# Altium integrated library Analog Devices Data Converters Digital-to-Analog Converters.IntLib: 2231 symbols (part 5 of 181)
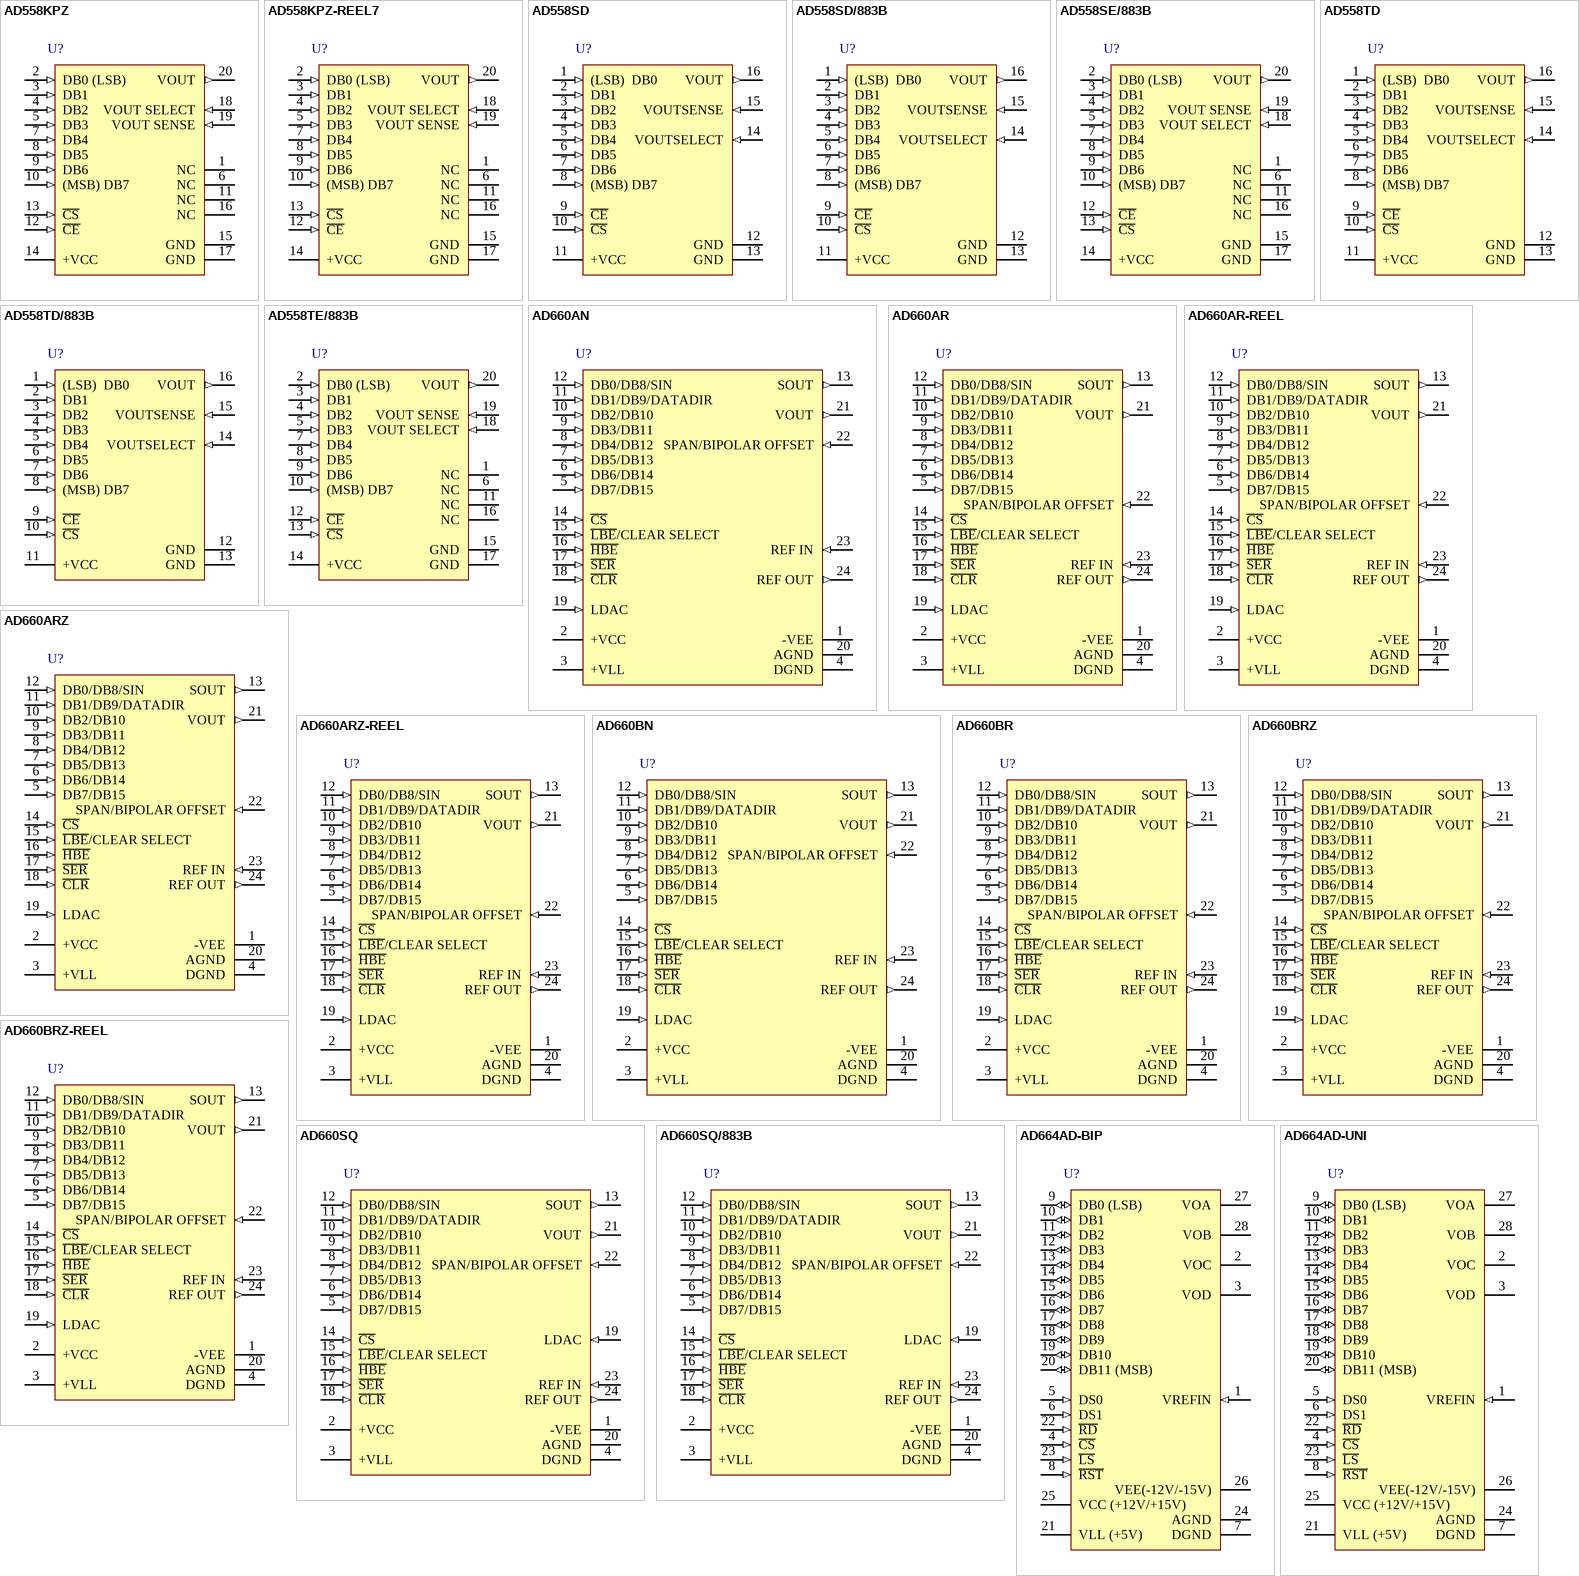
[diagram p118: symbols AD558KPZ to AD664AD-UNI]

## AD558TD
designator U?
Single 8-Bit Low Cost Complete uP-Compatible DACPORT, -55 to +125 degC, D-16, Tube; Generic Part Number: AD558; Manufacturer: Analog Devices; PartNumber: AD558TD; # DAC Outputs: 1; Max V+: 16.5V; Op Pwr Diss: 375mW; Resolution (Bits): 8; Settling Time: 800ns; Single Supply: Yes; DatasheetVersion: Rev.A; PackageVersion: Oct-2004; PackageReference: D-16; PackageDescription: 16-Lead Side-Brazed Ceramic Dual In-Line Package [SBDIP]; Supplier 1: Digi-Key; Supplier Part Number 1: AD558TD-ND; Supplier 2: Newark; Supplier Part Number 2: 05F6983; Supplier 3: Mouser; Supplier Part Number 3: 584-AD558TD; Packing: Tube; RoHS: N; Mounting Technology: Through Hole; ComponentLink1Description: Manufacturer URL; ComponentLink1URL: http://www.analog.com/en/index.html; ComponentLink2Description: Datasheet; ComponentLink2URL: http://www.analog.com/static/imported-files/data_sheets/AD558.pdf; ComponentLink3Description: Package Specification; ComponentLink3URL: http://www.analog.com/static/imported-files/packages/411773807540737148809448D_16.pdf; ComponentLink4Description: Product URL; ComponentLink4URL: http://www.analog.com/en/digital-to-analog-converters/da-converters/ad558/products/product.html
footprint D-16 (DIP, 16-Leads, Row Spacing 7.62mm, Pitch 2.54mm, Body 21.3x6.7mm)
pins: 1 (LSB)  DB0 (in), 2 DB1 (in), 3 DB2 (in), 4 DB3 (in), 5 DB4 (in), 6 DB5 (in), 7 DB6 (in), 8 (MSB) DB7 (in), 9 ~{CE} (in), 10 ~{CS} (in), 11 +VCC (power), 12 GND (power), 13 GND (power), 14 VOUTSELECT (in), 15 VOUTSENSE (in), 16 VOUT (out)

## AD558TD/883B
designator U?
Single 8-Bit Low Cost Complete uP-Compatible DACPORT, -55 to +125 degC, D-16, Tube; Generic Part Number: AD558; Manufacturer: Analog Devices; PartNumber: AD558TD/883B; # DAC Outputs: 1; Max V+: 16.5V; Op Pwr Diss: 375mW; Resolution (Bits): 8; Settling Time: 800ns; Single Supply: Yes; DatasheetVersion: Rev.A; PackageVersion: Oct-2004; PackageReference: D-16; PackageDescription: 16-Lead Side-Brazed Ceramic Dual In-Line Package [SBDIP]; Supplier 1: Mouser; Supplier Part Number 1: 584-AD558TD883B; Packing: Tube; RoHS: N; Mounting Technology: Through Hole; ComponentLink1Description: Manufacturer URL; ComponentLink1URL: http://www.analog.com/en/index.html; ComponentLink2Description: Datasheet; ComponentLink2URL: http://www.analog.com/static/imported-files/data_sheets/AD558.pdf; ComponentLink3Description: Package Specification; ComponentLink3URL: http://www.analog.com/static/imported-files/packages/411773807540737148809448D_16.pdf; ComponentLink4Description: Product URL; ComponentLink4URL: http://www.analog.com/en/digital-to-analog-converters/da-converters/ad558/products/product.html
footprint D-16 (DIP, 16-Leads, Row Spacing 7.62mm, Pitch 2.54mm, Body 21.3x6.7mm)
pins: 1 (LSB)  DB0 (in), 2 DB1 (in), 3 DB2 (in), 4 DB3 (in), 5 DB4 (in), 6 DB5 (in), 7 DB6 (in), 8 (MSB) DB7 (in), 9 ~{CE} (in), 10 ~{CS} (in), 11 +VCC (power), 12 GND (power), 13 GND (power), 14 VOUTSELECT (in), 15 VOUTSENSE (in), 16 VOUT (out)

## AD558TE/883B
designator U?
Single 8-Bit Low Cost Complete uP-Compatible DACPORT, -55 to +125 degC, E-20-1, Tube; Generic Part Number: AD558; Manufacturer: Analog Devices; PartNumber: AD558TE/883B; # DAC Outputs: 1; Max V+: 16.5V; Op Pwr Diss: 375mW; Resolution (Bits): 8; Settling Time: 800ns; Single Supply: Yes; DatasheetVersion: Rev.A; PackageVersion: 022106-A; PackageReference: E-20-1; PackageDescription: 20-Terminal Ceramic Leadless Chip Carrier [LCC]; Supplier 1: Mouser; Supplier Part Number 1: 584-AD558TE883B; Packing: Tube; RoHS: N; Mounting Technology: Surface Mount; ComponentLink1Description: Manufacturer URL; ComponentLink1URL: http://www.analog.com/en/index.html; ComponentLink2Description: Datasheet; ComponentLink2URL: http://www.analog.com/static/imported-files/data_sheets/AD558.pdf; ComponentLink3Description: Package Specification; ComponentLink3URL: http://www.analog.com/static/imported-files/packages/PKG_PDF/LCC(E)/E_20_1.pdf; ComponentLink4Description: Product URL; ComponentLink4URL: http://www.analog.com/en/digital-to-analog-converters/da-converters/ad558/products/product.html
footprint E-20-1_N (Leadless Chip Carrier, 20-Leads, Body 8.9x8.9mm, Pitch 1.27mm, IPC Medium Density)
footprint E-20-1_L (Leadless Chip Carrier, 20-Leads, Body 8.9x8.9mm, Pitch 1.27mm, IPC High Density)
footprint E-20-1_M (Leadless Chip Carrier, 20-Leads, Body 8.9x8.9mm, Pitch 1.27mm, IPC Low Density)
pins: 1 NC, 2 DB0 (LSB) (in), 3 DB1 (in), 4 DB2 (in), 5 DB3 (in), 6 NC, 7 DB4 (in), 8 DB5 (in), 9 DB6 (in), 10 (MSB) DB7 (in), 11 NC, 12 ~{CE} (in), 13 ~{CS} (in), 14 +VCC (power), 15 GND (power), 16 NC, 17 GND (power), 18 VOUT SELECT (in), 19 VOUT SENSE (in), 20 VOUT (out)

## AD660AN
designator U?
Single 16-Bit Monolithic DACPORT, -40 to +85 degC, N-24-1, Tube; Generic Part Number: AD660; Manufacturer: Analog Devices; PartNumber: AD660AN; # DAC Outputs: 1; Max V+: 16.5V; Op Pwr Diss: 625mW; Resolution (Bits): 16; Settling Time: 6µs; Single Supply: No; DatasheetVersion: Rev.B; PackageVersion: 071006-A; PackageReference: N-24-1; PackageDescription: 24-Lead Plastic Dual In-Line Package [PDIP] Narrow Body; Supplier 1: Digi-Key; Supplier Part Number 1: AD660AN-ND; Supplier 2: Newark; Supplier Part Number 2: 66F5806; Supplier 3: Mouser; Supplier Part Number 3: 584-AD660AN; Packing: Tube; RoHS: N; Mounting Technology: Through Hole; Code_JEDEC: MS-001; ComponentLink1Description: Manufacturer URL; ComponentLink1URL: http://www.analog.com/en/index.html; ComponentLink2Description: Datasheet; ComponentLink2URL: http://www.analog.com/static/imported-files/data_sheets/AD660.pdf; ComponentLink3Description: Package Specification; ComponentLink3URL: http://www.analog.com/static/imported-files/packages/50726455539629N_24_1.pdf; ComponentLink4Description: Product URL; ComponentLink4URL: http://www.analog.com/en/digital-to-analog-converters/da-converters/ad660/products/product.html
footprint N-24-1 (DIP, 24-Leads, Row Spacing 7.62mm, Pitch 2.54mm, Body 31.9x6.6mm)
pins: 1 -VEE (power) "Negative Analog Supply Pin", 2 +VCC (power) "Positive Analog Supply Pin", 3 +VLL (power) "Digital Supply Pin", 4 DGND (power) "Digital Ground Reference Pin", 5 DB7/DB15 (in) "DB7 and DB15 Byte Load Data Input Pin", 6 DB6/DB14 (in) "DB6 and DB14 Byte Load Data Input Pin", 7 DB5/DB13 (in) "DB5 and DB13 Byte Load Data Input Pin", 8 DB4/DB12 (in) "DB4 and DB12 Byte Load Data Input Pin", 9 DB3/DB11 (in) "DB3 and DB11 Byte Load Data Input Pin", 10 DB2/DB10 (in) "DB2 and DB10 Byte Load Data Input Pin", 11 DB1/DB9/DATADIR (in) "DB1 and DB9 Byte Load Data Input Pin/MSB or L\S\B\ First Data Direction Serial Input Select Pin", 12 DB0/DB8/SIN (in) "DB0 and DB8 Byte Load Data Input Pin/Serial Data Input Pin", 13 SOUT (out) "Serial Data Output Pin", 14 ~{CS} (in) "Chip Select Pin", 15 ~{LBE}/CLEAR SELECT (in) "Low Byte Enable Pin/U\n\i\p\o\l\ar or Bipolar Clear Select Pin", 16 ~{HBE} (in) "High Byte Enable Pin", 17 ~{SER} (in) "Serial Input Enable Pin", 18 ~{CLR} (in) "Output Clear Pin", 19 LDAC (in) "Load DAC Pin", 20 AGND (power) "Analog Ground Reference Pin", 21 VOUT (out) "Voltage Output Pin", 22 SPAN/BIPOLAR OFFSET (in) "Output Span Configuration Pin", 23 REF IN (in) "External Reference Voltage Input Pin", 24 REF OUT (out) "Internal Reference Voltage Output Pin"

## AD660AR
designator U?
Single 16-Bit Monolithic DACPORT, -40 to +85 degC, RW-24, Tube; Generic Part Number: AD660; Manufacturer: Analog Devices; PartNumber: AD660AR; # DAC Outputs: 1; Max V+: 16.5V; Op Pwr Diss: 625mW; Resolution (Bits): 16; Settling Time: 6µs; Single Supply: No; DatasheetVersion: Rev.B; PackageVersion: 060706-A; PackageReference: RW-24; PackageDescription: 24-Lead Standard Small Outline Package [SOIC_W]; Supplier 1: Digi-Key; Supplier Part Number 1: AD660AR-ND; Supplier 2: Mouser; Supplier Part Number 2: 584-AD660AR; Packing: Tube; RoHS: N; Mounting Technology: Surface Mount; Code_JEDEC: MS-013-AD; ComponentLink1Description: Manufacturer URL; ComponentLink1URL: http://www.analog.com/en/index.html; ComponentLink2Description: Datasheet; ComponentLink2URL: http://www.analog.com/static/imported-files/data_sheets/AD660.pdf; ComponentLink3Description: Package Specification; ComponentLink3URL: http://www.analog.com/static/imported-files/packages/33665150946139RW_24.pdf; ComponentLink4Description: Product URL; ComponentLink4URL: http://www.analog.com/en/digital-to-analog-converters/da-converters/ad660/products/product.html
footprint RW-24_N (SOIC, 24-Leads, Body 15.4x7.5mm, Pitch 1.27mm, IPC Medium Density)
footprint RW-24_L (SOIC, 24-Leads, Body 15.4x7.5mm, Pitch 1.27mm, IPC High Density)
footprint RW-24_M (SOIC, 24-Leads, Body 15.4x7.5mm, Pitch 1.27mm, IPC Low Density)
pins: 1 -VEE (power) "Negative Analog Supply Pin", 2 +VCC (power) "Positive Analog Supply Pin", 3 +VLL (power) "Digital Supply Pin", 4 DGND (power) "Digital Ground Reference Pin", 5 DB7/DB15 (in) "DB7 and DB15 Byte Load Data Input Pin", 6 DB6/DB14 (in) "DB6 and DB14 Byte Load Data Input Pin", 7 DB5/DB13 (in) "DB5 and DB13 Byte Load Data Input Pin", 8 DB4/DB12 (in) "DB4 and DB12 Byte Load Data Input Pin", 9 DB3/DB11 (in) "DB3 and DB11 Byte Load Data Input Pin", 10 DB2/DB10 (in) "DB2 and DB10 Byte Load Data Input Pin", 11 DB1/DB9/DATADIR (in) "DB1 and DB9 Byte Load Data Input Pin/MSB or L\S\B\ First Data Direction Serial Input Select Pin", 12 DB0/DB8/SIN (in) "DB0 and DB8 Byte Load Data Input Pin/Serial Data Input Pin", 13 SOUT (out) "Serial Data Output Pin", 14 ~{CS} (in) "Chip Select Pin", 15 ~{LBE}/CLEAR SELECT (in) "Low Byte Enable Pin/U\n\i\p\o\l\a\r\ or Bipolar Clear Select Pin", 16 ~{HBE} (in) "High Byte Enable Pin", 17 ~{SER} (in) "Serial Input Enable Pin", 18 ~{CLR} (in) "Output Clear Pin", 19 LDAC (in) "Load DAC Pin", 20 AGND (power) "Analog Ground Reference Pin", 21 VOUT (out) "Voltage Output Pin", 22 SPAN/BIPOLAR OFFSET (in) "Output Span Configuration Pin", 23 REF IN (in) "External Reference Voltage Input Pin", 24 REF OUT (out) "Internal Reference Voltage Output Pin"

## AD660AR-REEL
designator U?
Single 16-Bit Monolithic DACPORT, -40 to +85 degC, RW-24, Reel; Generic Part Number: AD660; Manufacturer: Analog Devices; PartNumber: AD660AR-REEL; # DAC Outputs: 1; Max V+: 16.5V; Op Pwr Diss: 625mW; Resolution (Bits): 16; Settling Time: 6µs; Single Supply: No; DatasheetVersion: Rev.B; PackageVersion: 060706-A; PackageReference: RW-24; PackageDescription: 24-Lead Standard Small Outline Package [SOIC_W]; Supplier 1: Mouser; Supplier Part Number 1: N/A; Packing: Reel; RoHS: N; Mounting Technology: Surface Mount; Code_JEDEC: MS-013-AD; ComponentLink1Description: Manufacturer URL; ComponentLink1URL: http://www.analog.com/en/index.html; ComponentLink2Description: Datasheet; ComponentLink2URL: http://www.analog.com/static/imported-files/data_sheets/AD660.pdf; ComponentLink3Description: Package Specification; ComponentLink3URL: http://www.analog.com/static/imported-files/packages/33665150946139RW_24.pdf; ComponentLink4Description: Product URL; ComponentLink4URL: http://www.analog.com/en/digital-to-analog-converters/da-converters/ad660/products/product.html
footprint RW-24_N (SOIC, 24-Leads, Body 15.4x7.5mm, Pitch 1.27mm, IPC Medium Density)
footprint RW-24_L (SOIC, 24-Leads, Body 15.4x7.5mm, Pitch 1.27mm, IPC High Density)
footprint RW-24_M (SOIC, 24-Leads, Body 15.4x7.5mm, Pitch 1.27mm, IPC Low Density)
pins: 1 -VEE (power) "Negative Analog Supply Pin", 2 +VCC (power) "Positive Analog Supply Pin", 3 +VLL (power) "Digital Supply Pin", 4 DGND (power) "Digital Ground Reference Pin", 5 DB7/DB15 (in) "DB7 and DB15 Byte Load Data Input Pin", 6 DB6/DB14 (in) "DB6 and DB14 Byte Load Data Input Pin", 7 DB5/DB13 (in) "DB5 and DB13 Byte Load Data Input Pin", 8 DB4/DB12 (in) "DB4 and DB12 Byte Load Data Input Pin", 9 DB3/DB11 (in) "DB3 and DB11 Byte Load Data Input Pin", 10 DB2/DB10 (in) "DB2 and DB10 Byte Load Data Input Pin", 11 DB1/DB9/DATADIR (in) "DB1 and DB9 Byte Load Data Input Pin/MSB or L\S\B\ First Data Direction Serial Input Select Pin", 12 DB0/DB8/SIN (in) "DB0 and DB8 Byte Load Data Input Pin/Serial Data Input Pin", 13 SOUT (out) "Serial Data Output Pin", 14 ~{CS} (in) "Chip Select Pin", 15 ~{LBE}/CLEAR SELECT (in) "Low Byte Enable Pin/U\n\i\p\o\l\a\r\ or Bipolar Clear Select Pin", 16 ~{HBE} (in) "High Byte Enable Pin", 17 ~{SER} (in) "Serial Input Enable Pin", 18 ~{CLR} (in) "Output Clear Pin", 19 LDAC (in) "Load DAC Pin", 20 AGND (power) "Analog Ground Reference Pin", 21 VOUT (out) "Voltage Output Pin", 22 SPAN/BIPOLAR OFFSET (in) "Output Span Configuration Pin", 23 REF IN (in) "External Reference Voltage Input Pin", 24 REF OUT (out) "Internal Reference Voltage Output Pin"

## AD660ARZ
designator U?
Single 16-Bit Monolithic DACPORT, -40 to +85 degC, RW-24, Pb-Free, Tube; Generic Part Number: AD660; Manufacturer: Analog Devices; PartNumber: AD660ARZ; # DAC Outputs: 1; Max V+: 16.5V; Op Pwr Diss: 625mW; Resolution (Bits): 16; Settling Time: 6µs; Single Supply: No; DatasheetVersion: Rev.B; PackageVersion: 060706-A; PackageReference: RW-24; PackageDescription: 24-Lead Standard Small Outline Package [SOIC_W]; Supplier 1: Digi-Key; Supplier Part Number 1: AD660ARZ-ND; Supplier 2: Newark; Supplier Part Number 2: 12M8704; Supplier 3: Mouser; Supplier Part Number 3: 584-AD660ARZ; Packing: Tube; RoHS: Y; Mounting Technology: Surface Mount; Code_JEDEC: MS-013-AD; ComponentLink1Description: Manufacturer URL; ComponentLink1URL: http://www.analog.com/en/index.html; ComponentLink2Description: Datasheet; ComponentLink2URL: http://www.analog.com/static/imported-files/data_sheets/AD660.pdf; ComponentLink3Description: Package Specification; ComponentLink3URL: http://www.analog.com/static/imported-files/packages/33665150946139RW_24.pdf; ComponentLink4Description: Product URL; ComponentLink4URL: http://www.analog.com/en/digital-to-analog-converters/da-converters/ad660/products/product.html
footprint RW-24_N (SOIC, 24-Leads, Body 15.4x7.5mm, Pitch 1.27mm, IPC Medium Density)
footprint RW-24_L (SOIC, 24-Leads, Body 15.4x7.5mm, Pitch 1.27mm, IPC High Density)
footprint RW-24_M (SOIC, 24-Leads, Body 15.4x7.5mm, Pitch 1.27mm, IPC Low Density)
pins: 1 -VEE (power) "Negative Analog Supply Pin", 2 +VCC (power) "Positive Analog Supply Pin", 3 +VLL (power) "Digital Supply Pin", 4 DGND (power) "Digital Ground Reference Pin", 5 DB7/DB15 (in) "DB7 and DB15 Byte Load Data Input Pin", 6 DB6/DB14 (in) "DB6 and DB14 Byte Load Data Input Pin", 7 DB5/DB13 (in) "DB5 and DB13 Byte Load Data Input Pin", 8 DB4/DB12 (in) "DB4 and DB12 Byte Load Data Input Pin", 9 DB3/DB11 (in) "DB3 and DB11 Byte Load Data Input Pin", 10 DB2/DB10 (in) "DB2 and DB10 Byte Load Data Input Pin", 11 DB1/DB9/DATADIR (in) "DB1 and DB9 Byte Load Data Input Pin/MSB or L\S\B\ First Data Direction Serial Input Select Pin", 12 DB0/DB8/SIN (in) "DB0 and DB8 Byte Load Data Input Pin/Serial Data Input Pin", 13 SOUT (out) "Serial Data Output Pin", 14 ~{CS} (in) "Chip Select Pin", 15 ~{LBE}/CLEAR SELECT (in) "Low Byte Enable Pin/U\n\i\p\o\l\a\r\ or Bipolar Clear Select Pin", 16 ~{HBE} (in) "High Byte Enable Pin", 17 ~{SER} (in) "Serial Input Enable Pin", 18 ~{CLR} (in) "Output Clear Pin", 19 LDAC (in) "Load DAC Pin", 20 AGND (power) "Analog Ground Reference Pin", 21 VOUT (out) "Voltage Output Pin", 22 SPAN/BIPOLAR OFFSET (in) "Output Span Configuration Pin", 23 REF IN (in) "External Reference Voltage Input Pin", 24 REF OUT (out) "Internal Reference Voltage Output Pin"

## AD660ARZ-REEL
designator U?
Single 16-Bit Monolithic DACPORT, -40 to +85 degC, RW-24, Pb-Free, Reel; Generic Part Number: AD660; Manufacturer: Analog Devices; PartNumber: AD660ARZ-REEL; # DAC Outputs: 1; Max V+: 16.5V; Op Pwr Diss: 625mW; Resolution (Bits): 16; Settling Time: 6µs; Single Supply: No; DatasheetVersion: Rev.B; PackageVersion: 060706-A; PackageReference: RW-24; PackageDescription: 24-Lead Standard Small Outline Package [SOIC_W]; Supplier 1: Digi-Key; Supplier Part Number 1: AD660ARZ-REEL-ND; Supplier 2: Mouser; Supplier Part Number 2: 584-AD660ARZ-R; Packing: Reel; RoHS: Y; Mounting Technology: Surface Mount; Code_JEDEC: MS-013-AD; ComponentLink1Description: Manufacturer URL; ComponentLink1URL: http://www.analog.com/en/index.html; ComponentLink2Description: Datasheet; ComponentLink2URL: http://www.analog.com/static/imported-files/data_sheets/AD660.pdf; ComponentLink3Description: Package Specification; ComponentLink3URL: http://www.analog.com/static/imported-files/packages/33665150946139RW_24.pdf; ComponentLink4Description: Product URL; ComponentLink4URL: http://www.analog.com/en/digital-to-analog-converters/da-converters/ad660/products/product.html
footprint RW-24_N (SOIC, 24-Leads, Body 15.4x7.5mm, Pitch 1.27mm, IPC Medium Density)
footprint RW-24_L (SOIC, 24-Leads, Body 15.4x7.5mm, Pitch 1.27mm, IPC High Density)
footprint RW-24_M (SOIC, 24-Leads, Body 15.4x7.5mm, Pitch 1.27mm, IPC Low Density)
pins: 1 -VEE (power) "Negative Analog Supply Pin", 2 +VCC (power) "Positive Analog Supply Pin", 3 +VLL (power) "Digital Supply Pin", 4 DGND (power) "Digital Ground Reference Pin", 5 DB7/DB15 (in) "DB7 and DB15 Byte Load Data Input Pin", 6 DB6/DB14 (in) "DB6 and DB14 Byte Load Data Input Pin", 7 DB5/DB13 (in) "DB5 and DB13 Byte Load Data Input Pin", 8 DB4/DB12 (in) "DB4 and DB12 Byte Load Data Input Pin", 9 DB3/DB11 (in) "DB3 and DB11 Byte Load Data Input Pin", 10 DB2/DB10 (in) "DB2 and DB10 Byte Load Data Input Pin", 11 DB1/DB9/DATADIR (in) "DB1 and DB9 Byte Load Data Input Pin/MSB or L\S\B\ First Data Direction Serial Input Select Pin", 12 DB0/DB8/SIN (in) "DB0 and DB8 Byte Load Data Input Pin/Serial Data Input Pin", 13 SOUT (out) "Serial Data Output Pin", 14 ~{CS} (in) "Chip Select Pin", 15 ~{LBE}/CLEAR SELECT (in) "Low Byte Enable Pin/U\n\i\p\o\l\a\r\ or Bipolar Clear Select Pin", 16 ~{HBE} (in) "High Byte Enable Pin", 17 ~{SER} (in) "Serial Input Enable Pin", 18 ~{CLR} (in) "Output Clear Pin", 19 LDAC (in) "Load DAC Pin", 20 AGND (power) "Analog Ground Reference Pin", 21 VOUT (out) "Voltage Output Pin", 22 SPAN/BIPOLAR OFFSET (in) "Output Span Configuration Pin", 23 REF IN (in) "External Reference Voltage Input Pin", 24 REF OUT (out) "Internal Reference Voltage Output Pin"

## AD660BN
designator U?
Single 16-Bit Monolithic DACPORT, -40 to +85 degC, N-24-1, Tube; Generic Part Number: AD660; Manufacturer: Analog Devices; PartNumber: AD660BN; # DAC Outputs: 1; Max V+: 16.5V; Op Pwr Diss: 625mW; Resolution (Bits): 16; Settling Time: 6µs; Single Supply: No; DatasheetVersion: Rev.B; PackageVersion: 071006-A; PackageReference: N-24-1; PackageDescription: 24-Lead Plastic Dual In-Line Package [PDIP] Narrow Body; Supplier 1: Digi-Key; Supplier Part Number 1: AD660BN-ND; Supplier 2: Newark; Supplier Part Number 2: 66F5808; Supplier 3: Mouser; Supplier Part Number 3: 584-AD660BN; Packing: Tube; RoHS: N; Mounting Technology: Through Hole; Code_JEDEC: MS-001; ComponentLink1Description: Manufacturer URL; ComponentLink1URL: http://www.analog.com/en/index.html; ComponentLink2Description: Datasheet; ComponentLink2URL: http://www.analog.com/static/imported-files/data_sheets/AD660.pdf; ComponentLink3Description: Package Specification; ComponentLink3URL: http://www.analog.com/static/imported-files/packages/50726455539629N_24_1.pdf; ComponentLink4Description: Product URL; ComponentLink4URL: http://www.analog.com/en/digital-to-analog-converters/da-converters/ad660/products/product.html
footprint N-24-1 (DIP, 24-Leads, Row Spacing 7.62mm, Pitch 2.54mm, Body 31.9x6.6mm)
pins: 1 -VEE (power) "Negative Analog Supply Pin", 2 +VCC (power) "Positive Analog Supply Pin", 3 +VLL (power) "Digital Supply Pin", 4 DGND (power) "Digital Ground Reference Pin", 5 DB7/DB15 (in) "DB7 and DB15 Byte Load Data Input Pin", 6 DB6/DB14 (in) "DB6 and DB14 Byte Load Data Input Pin", 7 DB5/DB13 (in) "DB5 and DB13 Byte Load Data Input Pin", 8 DB4/DB12 (in) "DB4 and DB12 Byte Load Data Input Pin", 9 DB3/DB11 (in) "DB3 and DB11 Byte Load Data Input Pin", 10 DB2/DB10 (in) "DB2 and DB10 Byte Load Data Input Pin", 11 DB1/DB9/DATADIR (in) "DB1 and DB9 Byte Load Data Input Pin/MSB or L\S\B\ First Data Direction Serial Input Select Pin", 12 DB0/DB8/SIN (in) "DB0 and DB8 Byte Load Data Input Pin/Serial Data Input Pin", 13 SOUT (out) "Serial Data Output Pin", 14 ~{CS} (in) "Chip Select Pin", 15 ~{LBE}/CLEAR SELECT (in) "Low Byte Enable Pin/U\n\i\p\o\l\ar or Bipolar Clear Select Pin", 16 ~{HBE} (in) "High Byte Enable Pin", 17 ~{SER} (in) "Serial Input Enable Pin", 18 ~{CLR} (in) "Output Clear Pin", 19 LDAC (in) "Load DAC Pin", 20 AGND (power) "Analog Ground Reference Pin", 21 VOUT (out) "Voltage Output Pin", 22 SPAN/BIPOLAR OFFSET (in) "Output Span Configuration Pin", 23 REF IN (in) "External Reference Voltage Input Pin", 24 REF OUT (out) "Internal Reference Voltage Output Pin"

## AD660BR
designator U?
Single 16-Bit Monolithic DACPORT, -40 to +85 degC, RW-24, Tube; Generic Part Number: AD660; Manufacturer: Analog Devices; PartNumber: AD660BR; # DAC Outputs: 1; Max V+: 16.5V; Op Pwr Diss: 625mW; Resolution (Bits): 16; Settling Time: 6µs; Single Supply: No; DatasheetVersion: Rev.B; PackageVersion: 060706-A; PackageReference: RW-24; PackageDescription: 24-Lead Standard Small Outline Package [SOIC_W]; Supplier 1: Digi-Key; Supplier Part Number 1: AD660BR-ND; Supplier 2: Newark; Supplier Part Number 2: 09B5458; Supplier 3: Mouser; Supplier Part Number 3: 584-AD660BR; Packing: Tube; RoHS: N; Mounting Technology: Surface Mount; Code_JEDEC: MS-013-AD; ComponentLink1Description: Manufacturer URL; ComponentLink1URL: http://www.analog.com/en/index.html; ComponentLink2Description: Datasheet; ComponentLink2URL: http://www.analog.com/static/imported-files/data_sheets/AD660.pdf; ComponentLink3Description: Package Specification; ComponentLink3URL: http://www.analog.com/static/imported-files/packages/33665150946139RW_24.pdf; ComponentLink4Description: Product URL; ComponentLink4URL: http://www.analog.com/en/digital-to-analog-converters/da-converters/ad660/products/product.html
footprint RW-24_N (SOIC, 24-Leads, Body 15.4x7.5mm, Pitch 1.27mm, IPC Medium Density)
footprint RW-24_L (SOIC, 24-Leads, Body 15.4x7.5mm, Pitch 1.27mm, IPC High Density)
footprint RW-24_M (SOIC, 24-Leads, Body 15.4x7.5mm, Pitch 1.27mm, IPC Low Density)
pins: 1 -VEE (power) "Negative Analog Supply Pin", 2 +VCC (power) "Positive Analog Supply Pin", 3 +VLL (power) "Digital Supply Pin", 4 DGND (power) "Digital Ground Reference Pin", 5 DB7/DB15 (in) "DB7 and DB15 Byte Load Data Input Pin", 6 DB6/DB14 (in) "DB6 and DB14 Byte Load Data Input Pin", 7 DB5/DB13 (in) "DB5 and DB13 Byte Load Data Input Pin", 8 DB4/DB12 (in) "DB4 and DB12 Byte Load Data Input Pin", 9 DB3/DB11 (in) "DB3 and DB11 Byte Load Data Input Pin", 10 DB2/DB10 (in) "DB2 and DB10 Byte Load Data Input Pin", 11 DB1/DB9/DATADIR (in) "DB1 and DB9 Byte Load Data Input Pin/MSB or L\S\B\ First Data Direction Serial Input Select Pin", 12 DB0/DB8/SIN (in) "DB0 and DB8 Byte Load Data Input Pin/Serial Data Input Pin", 13 SOUT (out) "Serial Data Output Pin", 14 ~{CS} (in) "Chip Select Pin", 15 ~{LBE}/CLEAR SELECT (in) "Low Byte Enable Pin/U\n\i\p\o\l\a\r\ or Bipolar Clear Select Pin", 16 ~{HBE} (in) "High Byte Enable Pin", 17 ~{SER} (in) "Serial Input Enable Pin", 18 ~{CLR} (in) "Output Clear Pin", 19 LDAC (in) "Load DAC Pin", 20 AGND (power) "Analog Ground Reference Pin", 21 VOUT (out) "Voltage Output Pin", 22 SPAN/BIPOLAR OFFSET (in) "Output Span Configuration Pin", 23 REF IN (in) "External Reference Voltage Input Pin", 24 REF OUT (out) "Internal Reference Voltage Output Pin"

## AD660BRZ
designator U?
Single 16-Bit Monolithic DACPORT, -40 to +85 degC, RW-24, Pb-Free, Tube; Generic Part Number: AD660; Manufacturer: Analog Devices; PartNumber: AD660BRZ; # DAC Outputs: 1; Max V+: 16.5V; Op Pwr Diss: 625mW; Resolution (Bits): 16; Settling Time: 6µs; Single Supply: No; DatasheetVersion: Rev.B; PackageVersion: 060706-A; PackageReference: RW-24; PackageDescription: 24-Lead Standard Small Outline Package [SOIC_W]; Supplier 1: Digi-Key; Supplier Part Number 1: AD660BRZ-ND; Supplier 2: Newark; Supplier Part Number 2: 12M8707; Supplier 3: Mouser; Supplier Part Number 3: 584-AD660BRZ; Packing: Tube; RoHS: Y; Mounting Technology: Surface Mount; Code_JEDEC: MS-013-AD; ComponentLink1Description: Manufacturer URL; ComponentLink1URL: http://www.analog.com/en/index.html; ComponentLink2Description: Datasheet; ComponentLink2URL: http://www.analog.com/static/imported-files/data_sheets/AD660.pdf; ComponentLink3Description: Package Specification; ComponentLink3URL: http://www.analog.com/static/imported-files/packages/33665150946139RW_24.pdf; ComponentLink4Description: Product URL; ComponentLink4URL: http://www.analog.com/en/digital-to-analog-converters/da-converters/ad660/products/product.html
footprint RW-24_N (SOIC, 24-Leads, Body 15.4x7.5mm, Pitch 1.27mm, IPC Medium Density)
footprint RW-24_L (SOIC, 24-Leads, Body 15.4x7.5mm, Pitch 1.27mm, IPC High Density)
footprint RW-24_M (SOIC, 24-Leads, Body 15.4x7.5mm, Pitch 1.27mm, IPC Low Density)
pins: 1 -VEE (power) "Negative Analog Supply Pin", 2 +VCC (power) "Positive Analog Supply Pin", 3 +VLL (power) "Digital Supply Pin", 4 DGND (power) "Digital Ground Reference Pin", 5 DB7/DB15 (in) "DB7 and DB15 Byte Load Data Input Pin", 6 DB6/DB14 (in) "DB6 and DB14 Byte Load Data Input Pin", 7 DB5/DB13 (in) "DB5 and DB13 Byte Load Data Input Pin", 8 DB4/DB12 (in) "DB4 and DB12 Byte Load Data Input Pin", 9 DB3/DB11 (in) "DB3 and DB11 Byte Load Data Input Pin", 10 DB2/DB10 (in) "DB2 and DB10 Byte Load Data Input Pin", 11 DB1/DB9/DATADIR (in) "DB1 and DB9 Byte Load Data Input Pin/MSB or L\S\B\ First Data Direction Serial Input Select Pin", 12 DB0/DB8/SIN (in) "DB0 and DB8 Byte Load Data Input Pin/Serial Data Input Pin", 13 SOUT (out) "Serial Data Output Pin", 14 ~{CS} (in) "Chip Select Pin", 15 ~{LBE}/CLEAR SELECT (in) "Low Byte Enable Pin/U\n\i\p\o\l\a\r\ or Bipolar Clear Select Pin", 16 ~{HBE} (in) "High Byte Enable Pin", 17 ~{SER} (in) "Serial Input Enable Pin", 18 ~{CLR} (in) "Output Clear Pin", 19 LDAC (in) "Load DAC Pin", 20 AGND (power) "Analog Ground Reference Pin", 21 VOUT (out) "Voltage Output Pin", 22 SPAN/BIPOLAR OFFSET (in) "Output Span Configuration Pin", 23 REF IN (in) "External Reference Voltage Input Pin", 24 REF OUT (out) "Internal Reference Voltage Output Pin"

## AD660BRZ-REEL
designator U?
Single 16-Bit Monolithic DACPORT, -40 to +85 degC, RW-24, Pb-Free, Reel; Generic Part Number: AD660; Manufacturer: Analog Devices; PartNumber: AD660BRZ-REEL; # DAC Outputs: 1; Max V+: 16.5V; Op Pwr Diss: 625mW; Resolution (Bits): 16; Settling Time: 6µs; Single Supply: No; DatasheetVersion: Rev.B; PackageVersion: 060706-A; PackageReference: RW-24; PackageDescription: 24-Lead Standard Small Outline Package [SOIC_W]; Supplier 1: Digi-Key; Supplier Part Number 1: AD660BRZ-REEL-ND; Supplier 2: Mouser; Supplier Part Number 2: 584-AD660BRZ-R; Packing: Reel; RoHS: Y; Mounting Technology: Surface Mount; Code_JEDEC: MS-013-AD; ComponentLink1Description: Manufacturer URL; ComponentLink1URL: http://www.analog.com/en/index.html; ComponentLink2Description: Datasheet; ComponentLink2URL: http://www.analog.com/static/imported-files/data_sheets/AD660.pdf; ComponentLink3Description: Package Specification; ComponentLink3URL: http://www.analog.com/static/imported-files/packages/33665150946139RW_24.pdf; ComponentLink4Description: Product URL; ComponentLink4URL: http://www.analog.com/en/digital-to-analog-converters/da-converters/ad660/products/product.html
footprint RW-24_N (SOIC, 24-Leads, Body 15.4x7.5mm, Pitch 1.27mm, IPC Medium Density)
footprint RW-24_L (SOIC, 24-Leads, Body 15.4x7.5mm, Pitch 1.27mm, IPC High Density)
footprint RW-24_M (SOIC, 24-Leads, Body 15.4x7.5mm, Pitch 1.27mm, IPC Low Density)
pins: 1 -VEE (power) "Negative Analog Supply Pin", 2 +VCC (power) "Positive Analog Supply Pin", 3 +VLL (power) "Digital Supply Pin", 4 DGND (power) "Digital Ground Reference Pin", 5 DB7/DB15 (in) "DB7 and DB15 Byte Load Data Input Pin", 6 DB6/DB14 (in) "DB6 and DB14 Byte Load Data Input Pin", 7 DB5/DB13 (in) "DB5 and DB13 Byte Load Data Input Pin", 8 DB4/DB12 (in) "DB4 and DB12 Byte Load Data Input Pin", 9 DB3/DB11 (in) "DB3 and DB11 Byte Load Data Input Pin", 10 DB2/DB10 (in) "DB2 and DB10 Byte Load Data Input Pin", 11 DB1/DB9/DATADIR (in) "DB1 and DB9 Byte Load Data Input Pin/MSB or L\S\B\ First Data Direction Serial Input Select Pin", 12 DB0/DB8/SIN (in) "DB0 and DB8 Byte Load Data Input Pin/Serial Data Input Pin", 13 SOUT (out) "Serial Data Output Pin", 14 ~{CS} (in) "Chip Select Pin", 15 ~{LBE}/CLEAR SELECT (in) "Low Byte Enable Pin/U\n\i\p\o\l\a\r\ or Bipolar Clear Select Pin", 16 ~{HBE} (in) "High Byte Enable Pin", 17 ~{SER} (in) "Serial Input Enable Pin", 18 ~{CLR} (in) "Output Clear Pin", 19 LDAC (in) "Load DAC Pin", 20 AGND (power) "Analog Ground Reference Pin", 21 VOUT (out) "Voltage Output Pin", 22 SPAN/BIPOLAR OFFSET (in) "Output Span Configuration Pin", 23 REF IN (in) "External Reference Voltage Input Pin", 24 REF OUT (out) "Internal Reference Voltage Output Pin"

## AD660SQ
designator U?
Single 16-Bit Monolithic DACPORT, -55 to +125 degC, Q-24-1, Tube; Generic Part Number: AD660; Manufacturer: Analog Devices; PartNumber: AD660SQ; # DAC Outputs: 1; Max V+: 16.5V; Op Pwr Diss: 625mW; Resolution (Bits): 16; Settling Time: 6µs; Single Supply: No; DatasheetVersion: Rev.B; PackageVersion: 100808-A; PackageReference: Q-24-1; PackageDescription: 24-Lead Ceramic Dual In-Line Package [CERDIP]; Supplier 1: Digi-Key; Supplier Part Number 1: AD660SQ-ND; Supplier 2: Mouser; Supplier Part Number 2: 584-AD660SQ; Packing: Tube; RoHS: N; Mounting Technology: Through Hole; ComponentLink1Description: Manufacturer URL; ComponentLink1URL: http://www.analog.com/en/index.html; ComponentLink2Description: Datasheet; ComponentLink2URL: http://www.analog.com/static/imported-files/data_sheets/AD660.pdf; ComponentLink3Description: Package Specification; ComponentLink3URL: http://www.analog.com/static/imported-files/packages/PKG_PDF/CERDIP(Q)/Q_24_1.pdf; ComponentLink4Description: Product URL; ComponentLink4URL: http://www.analog.com/en/digital-to-analog-converters/da-converters/ad660/products/product.html
footprint Q-24-1 (DIP, 24-Leads, Row Spacing 7.62mm, Pitch 2.54mm, Body 31.9x6.7mm)
pins: 1 -VEE (power) "Negative Analog Supply Pin", 2 +VCC (power) "Positive Analog Supply Pin", 3 +VLL (power) "Digital Supply Pin", 4 DGND (power) "Digital Ground Reference Pin", 5 DB7/DB15 (in) "DB7 and DB15 Byte Load Data Input Pin", 6 DB6/DB14 (in) "DB6 and DB14 Byte Load Data Input Pin", 7 DB5/DB13 (in) "DB5 and DB13 Byte Load Data Input Pin", 8 DB4/DB12 (in) "DB4 and DB12 Byte Load Data Input Pin", 9 DB3/DB11 (in) "DB3 and DB11 Byte Load Data Input Pin", 10 DB2/DB10 (in) "DB2 and DB10 Byte Load Data Input Pin", 11 DB1/DB9/DATADIR (in) "DB1 and DB9 Byte Load Data Input Pin/MSB or L\S\B\ First Data Direction Serial Input Select Pin", 12 DB0/DB8/SIN (in) "DB0 and DB8 Byte Load Data Input Pin/Serial Data Input Pin", 13 SOUT (out) "Serial Data Output Pin", 14 ~{CS} (in) "Chip Select Pin", 15 ~{LBE}/CLEAR SELECT (in) "Low Byte Enable Pin/U\n\i\p\o\l\ar or Bipolar Clear Select Pin", 16 ~{HBE} (in) "High Byte Enable Pin", 17 ~{SER} (in) "Serial Input Enable Pin", 18 ~{CLR} (in) "Output Clear Pin", 19 LDAC (in) "Load DAC Pin", 20 AGND (power) "Analog Ground Reference Pin", 21 VOUT (out) "Voltage Output Pin", 22 SPAN/BIPOLAR OFFSET (in) "Output Span Configuration Pin", 23 REF IN (in) "External Reference Voltage Input Pin", 24 REF OUT (out) "Internal Reference Voltage Output Pin"

## AD660SQ/883B
designator U?
Single 16-Bit Monolithic DACPORT, -55 to +125 degC, Q-24-1, Tube; Generic Part Number: AD660; Manufacturer: Analog Devices; PartNumber: AD660SQ/883B; # DAC Outputs: 1; Max V+: 16.5V; Op Pwr Diss: 625mW; Resolution (Bits): 16; Settling Time: 6µs; Single Supply: No; DatasheetVersion: Rev.B; PackageVersion: 100808-A; PackageReference: Q-24-1; PackageDescription: 24-Lead Ceramic Dual In-Line Package [CERDIP]; Supplier 1: Mouser; Supplier Part Number 1: 584-AD660SQ883B; Packing: Tube; RoHS: N; Mounting Technology: Through Hole; ComponentLink1Description: Manufacturer URL; ComponentLink1URL: http://www.analog.com/en/index.html; ComponentLink2Description: Datasheet; ComponentLink2URL: http://www.analog.com/static/imported-files/data_sheets/AD660.pdf; ComponentLink3Description: Package Specification; ComponentLink3URL: http://www.analog.com/static/imported-files/packages/PKG_PDF/CERDIP(Q)/Q_24_1.pdf; ComponentLink4Description: Product URL; ComponentLink4URL: http://www.analog.com/en/digital-to-analog-converters/da-converters/ad660/products/product.html
footprint Q-24-1 (DIP, 24-Leads, Row Spacing 7.62mm, Pitch 2.54mm, Body 31.9x6.7mm)
pins: 1 -VEE (power) "Negative Analog Supply Pin", 2 +VCC (power) "Positive Analog Supply Pin", 3 +VLL (power) "Digital Supply Pin", 4 DGND (power) "Digital Ground Reference Pin", 5 DB7/DB15 (in) "DB7 and DB15 Byte Load Data Input Pin", 6 DB6/DB14 (in) "DB6 and DB14 Byte Load Data Input Pin", 7 DB5/DB13 (in) "DB5 and DB13 Byte Load Data Input Pin", 8 DB4/DB12 (in) "DB4 and DB12 Byte Load Data Input Pin", 9 DB3/DB11 (in) "DB3 and DB11 Byte Load Data Input Pin", 10 DB2/DB10 (in) "DB2 and DB10 Byte Load Data Input Pin", 11 DB1/DB9/DATADIR (in) "DB1 and DB9 Byte Load Data Input Pin/MSB or L\S\B\ First Data Direction Serial Input Select Pin", 12 DB0/DB8/SIN (in) "DB0 and DB8 Byte Load Data Input Pin/Serial Data Input Pin", 13 SOUT (out) "Serial Data Output Pin", 14 ~{CS} (in) "Chip Select Pin", 15 ~{LBE}/CLEAR SELECT (in) "Low Byte Enable Pin/U\n\i\p\o\l\ar or Bipolar Clear Select Pin", 16 ~{HBE} (in) "High Byte Enable Pin", 17 ~{SER} (in) "Serial Input Enable Pin", 18 ~{CLR} (in) "Output Clear Pin", 19 LDAC (in) "Load DAC Pin", 20 AGND (power) "Analog Ground Reference Pin", 21 VOUT (out) "Voltage Output Pin", 22 SPAN/BIPOLAR OFFSET (in) "Output Span Configuration Pin", 23 REF IN (in) "External Reference Voltage Input Pin", 24 REF OUT (out) "Internal Reference Voltage Output Pin"

## AD664AD-BIP
designator U?
Quad 12-Bit Monolithic Digital-to-Analog Converter, -40 to +85 degC, D-28-2, Tube; Generic Part Number: AD664; Manufacturer: Analog Devices; PartNumber: AD664AD-BIP; # DAC Outputs: 4; Max V+: 16.5V; Op Pwr Diss: 525mW; Resolution (Bits): 12; Settling Time: 8µs; Single Supply: No; DatasheetVersion: Rev.D; PackageVersion: Oct-2004; PackageReference: D-28-2; PackageDescription: 28-Lead Side-Brazed Ceramic Dual In-Line Package [SBDIP]; Supplier 1: Digi-Key; Supplier Part Number 1: AD664AD-BIP-ND; Supplier 2: Mouser; Supplier Part Number 2: 584-AD664AD-BIP; Packing: Tube; RoHS: N; Mounting Technology: Through Hole; ComponentLink1Description: Manufacturer URL; ComponentLink1URL: http://www.analog.com/en/index.html; ComponentLink2Description: Datasheet; ComponentLink2URL: http://www.analog.com/static/imported-files/data_sheets/AD664.pdf; ComponentLink3Description: Package Specification; ComponentLink3URL: http://www.analog.com/static/imported-files/packages/28824602D_28_2.pdf; ComponentLink4Description: Product URL; ComponentLink4URL: http://www.analog.com/en/digital-to-analog-converters/da-converters/ad664/products/product.html
footprint D-28-2 (DIP, 28-Leads, Row Spacing 15.24mm, Pitch 2.54mm, Body 37.2x14.1mm)
pins: 1 VREFIN (in), 2 VOC (hiz), 3 VOD (hiz), 4 ~{CS} (in), 5 DS0 (in), 6 DS1 (in), 7 DGND (power), 8 ~{RST} (in), 9 DB0 (LSB) (io), 10 DB1 (io), 11 DB2 (io), 12 DB3 (io), 13 DB4 (io), 14 DB5 (io), 15 DB6 (io), 16 DB7 (io), 17 DB8 (io), 18 DB9 (io), 19 DB10 (io), 20 DB11 (MSB) (io), 21 VLL (+5V) (power), 22 ~{RD} (in), 23 ~{LS} (in), 24 AGND (power), 25 VCC (+12V/+15V) (power), 26 VEE(-12V/-15V) (power), 27 VOA (hiz), 28 VOB (hiz)

## AD664AD-UNI
designator U?
Quad 12-Bit Monolithic Digital-to-Analog Converter, -40 to +85 degC, D-28-2, Tube; Generic Part Number: AD664; Manufacturer: Analog Devices; PartNumber: AD664AD-UNI; # DAC Outputs: 4; Max V+: 16.5V; Op Pwr Diss: 525mW; Resolution (Bits): 12; Settling Time: 8µs; Single Supply: No; DatasheetVersion: Rev.D; PackageVersion: Oct-2004; PackageReference: D-28-2; PackageDescription: 28-Lead Side-Brazed Ceramic Dual In-Line Package [SBDIP]; Supplier 1: Digi-Key; Supplier Part Number 1: AD664AD-UNI-ND; Supplier 2: Mouser; Supplier Part Number 2: 584-AD664AD-UNI; Packing: Tube; RoHS: N; Mounting Technology: Through Hole; ComponentLink1Description: Manufacturer URL; ComponentLink1URL: http://www.analog.com/en/index.html; ComponentLink2Description: Datasheet; ComponentLink2URL: http://www.analog.com/static/imported-files/data_sheets/AD664.pdf; ComponentLink3Description: Package Specification; ComponentLink3URL: http://www.analog.com/static/imported-files/packages/28824602D_28_2.pdf; ComponentLink4Description: Product URL; ComponentLink4URL: http://www.analog.com/en/digital-to-analog-converters/da-converters/ad664/products/product.html
footprint D-28-2 (DIP, 28-Leads, Row Spacing 15.24mm, Pitch 2.54mm, Body 37.2x14.1mm)
pins: 1 VREFIN (in), 2 VOC (hiz), 3 VOD (hiz), 4 ~{CS} (in), 5 DS0 (in), 6 DS1 (in), 7 DGND (power), 8 ~{RST} (in), 9 DB0 (LSB) (io), 10 DB1 (io), 11 DB2 (io), 12 DB3 (io), 13 DB4 (io), 14 DB5 (io), 15 DB6 (io), 16 DB7 (io), 17 DB8 (io), 18 DB9 (io), 19 DB10 (io), 20 DB11 (MSB) (io), 21 VLL (+5V) (power), 22 ~{RD} (in), 23 ~{LS} (in), 24 AGND (power), 25 VCC (+12V/+15V) (power), 26 VEE(-12V/-15V) (power), 27 VOA (hiz), 28 VOB (hiz)

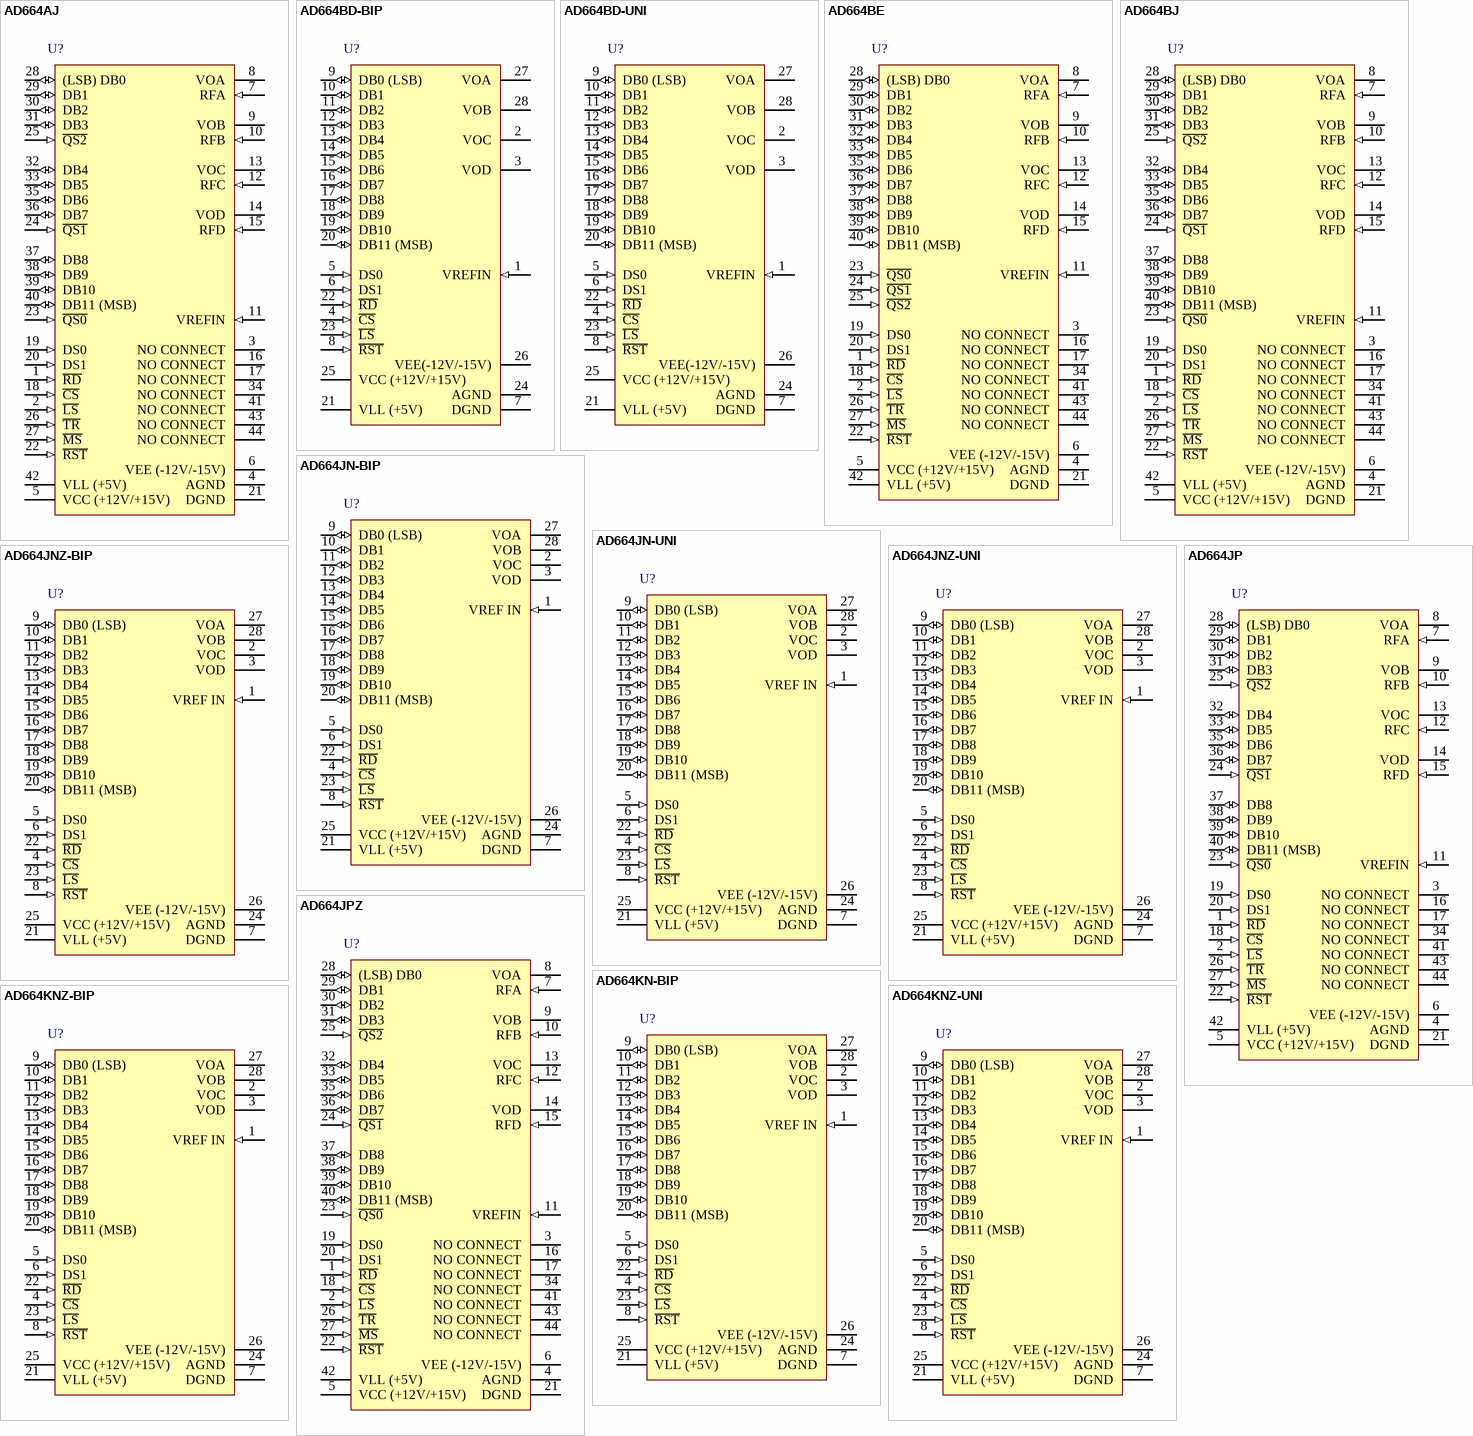
[diagram p4: symbols AD664AJ to AD664KNZ-UNI]

## AD664AJ
designator U?
Quad 12-Bit Monolithic Digital-to-Analog Converter, -40 to +85 degC, J-44, Pb-Free, Tube; Generic Part Number: AD664; Manufacturer: Analog Devices; PartNumber: AD664AJ; # DAC Outputs: 4; Max V+: 16.5V; Op Pwr Diss: 525mW; Resolution (Bits): 12; Settling Time: 8µs; Single Supply: No; DatasheetVersion: Rev.D; PackageVersion: rev0, 1992; PackageReference: J-44; PackageDescription: 44-Pin Leaded Chip Carrier 1.27 mm Pitch; Supplier 1: Digi-Key; Supplier Part Number 1: AD664AJ-ND; Supplier 2: Mouser; Supplier Part Number 2: 584-AD664AJ; Packing: Tube; RoHS: Y; Mounting Technology: Surface Mount; ComponentLink1Description: Manufacturer URL; ComponentLink1URL: http://www.analog.com/en/index.html; ComponentLink2Description: Datasheet; ComponentLink2URL: http://www.analog.com/static/imported-files/data_sheets/AD664.pdf; ComponentLink3Description: Package Specification; ComponentLink3URL: http://www.analog.com/static/imported-files/packages/95600467J_44.pdf; ComponentLink4Description: Product URL; ComponentLink4URL: http://www.analog.com/en/digital-to-analog-converters/da-converters/ad664/products/product.html
footprint J-44_N (Leaded Chip Carrier, 44-Leads, Body 16.4x16.4mm, Pitch 1.27mm, IPC Medium Density)
footprint J-44_L (Leaded Chip Carrier, 44-Leads, Body 16.4x16.4mm, Pitch 1.27mm, IPC High Density)
footprint J-44_M (Leaded Chip Carrier, 44-Leads, Body 16.4x16.4mm, Pitch 1.27mm, IPC Low Density)
pins: 1 ~{RD} (in), 2 ~{LS} (in), 3 NO CONNECT, 4 AGND (power), 5 VCC (+12V/+15V) (power), 6 VEE (-12V/-15V) (power), 7 RFA (in), 8 VOA (hiz), 9 VOB (hiz), 10 RFB (in), 11 VREFIN (in), 12 RFC (in), 13 VOC (hiz), 14 VOD (hiz), 15 RFD (in), 16 NO CONNECT, 17 NO CONNECT, 18 ~{CS} (in), 19 DS0 (in), 20 DS1 (in), 21 DGND (power), 22 ~{RST} (in), 23 ~{QS0} (in), 24 ~{QS1} (in), 25 ~{QS2} (in), 26 ~{TR} (in), 27 ~{MS} (in), 28 (LSB) DB0 (io), 29 DB1 (io), 30 DB2 (io), 31 DB3 (io), 32 DB4 (io), 33 DB5 (io), 34 NO CONNECT, 35 DB6 (io), 36 DB7 (io), 37 DB8 (io), 38 DB9 (io), 39 DB10 (io), 40 DB11 (MSB) (io), 41 NO CONNECT, 42 VLL (+5V) (power), 43 NO CONNECT, 44 NO CONNECT

## AD664BD-BIP
designator U?
Quad 12-Bit Monolithic Digital-to-Analog Converter, -40 to +85 degC, D-28-2, Tube; Generic Part Number: AD664; Manufacturer: Analog Devices; PartNumber: AD664BD-BIP; # DAC Outputs: 4; Max V+: 16.5V; Op Pwr Diss: 525mW; Resolution (Bits): 12; Settling Time: 8µs; Single Supply: No; DatasheetVersion: Rev.D; PackageVersion: Oct-2004; PackageReference: D-28-2; PackageDescription: 28-Lead Side-Brazed Ceramic Dual In-Line Package [SBDIP]; Supplier 1: Digi-Key; Supplier Part Number 1: AD664BD-BIP-ND; Supplier 2: Newark; Supplier Part Number 2: 05F7168; Supplier 3: Mouser; Supplier Part Number 3: 584-AD664BD-BIP; Packing: Tube; RoHS: N; Mounting Technology: Through Hole; ComponentLink1Description: Manufacturer URL; ComponentLink1URL: http://www.analog.com/en/index.html; ComponentLink2Description: Datasheet; ComponentLink2URL: http://www.analog.com/static/imported-files/data_sheets/AD664.pdf; ComponentLink3Description: Package Specification; ComponentLink3URL: http://www.analog.com/static/imported-files/packages/28824602D_28_2.pdf; ComponentLink4Description: Product URL; ComponentLink4URL: http://www.analog.com/en/digital-to-analog-converters/da-converters/ad664/products/product.html
footprint D-28-2 (DIP, 28-Leads, Row Spacing 15.24mm, Pitch 2.54mm, Body 37.2x14.1mm)
pins: 1 VREFIN (in), 2 VOC (hiz), 3 VOD (hiz), 4 ~{CS} (in), 5 DS0 (in), 6 DS1 (in), 7 DGND (power), 8 ~{RST} (in), 9 DB0 (LSB) (io), 10 DB1 (io), 11 DB2 (io), 12 DB3 (io), 13 DB4 (io), 14 DB5 (io), 15 DB6 (io), 16 DB7 (io), 17 DB8 (io), 18 DB9 (io), 19 DB10 (io), 20 DB11 (MSB) (io), 21 VLL (+5V) (power), 22 ~{RD} (in), 23 ~{LS} (in), 24 AGND (power), 25 VCC (+12V/+15V) (power), 26 VEE(-12V/-15V) (power), 27 VOA (hiz), 28 VOB (hiz)

## AD664BD-UNI
designator U?
Quad 12-Bit Monolithic Digital-to-Analog Converter, -40 to +85 degC, D-28-2, Tube; Generic Part Number: AD664; Manufacturer: Analog Devices; PartNumber: AD664BD-UNI; # DAC Outputs: 4; Max V+: 16.5V; Op Pwr Diss: 525mW; Resolution (Bits): 12; Settling Time: 8µs; Single Supply: No; DatasheetVersion: Rev.D; PackageVersion: Oct-2004; PackageReference: D-28-2; PackageDescription: 28-Lead Side-Brazed Ceramic Dual In-Line Package [SBDIP]; Supplier 1: Digi-Key; Supplier Part Number 1: AD664BD-UNI-ND; Supplier 2: Newark; Supplier Part Number 2: 05F7169; Supplier 3: Mouser; Supplier Part Number 3: 584-AD664BD-UNI; Packing: Tube; RoHS: N; Mounting Technology: Through Hole; ComponentLink1Description: Manufacturer URL; ComponentLink1URL: http://www.analog.com/en/index.html; ComponentLink2Description: Datasheet; ComponentLink2URL: http://www.analog.com/static/imported-files/data_sheets/AD664.pdf; ComponentLink3Description: Package Specification; ComponentLink3URL: http://www.analog.com/static/imported-files/packages/28824602D_28_2.pdf; ComponentLink4Description: Product URL; ComponentLink4URL: http://www.analog.com/en/digital-to-analog-converters/da-converters/ad664/products/product.html
footprint D-28-2 (DIP, 28-Leads, Row Spacing 15.24mm, Pitch 2.54mm, Body 37.2x14.1mm)
pins: 1 VREFIN (in), 2 VOC (hiz), 3 VOD (hiz), 4 ~{CS} (in), 5 DS0 (in), 6 DS1 (in), 7 DGND (power), 8 ~{RST} (in), 9 DB0 (LSB) (io), 10 DB1 (io), 11 DB2 (io), 12 DB3 (io), 13 DB4 (io), 14 DB5 (io), 15 DB6 (io), 16 DB7 (io), 17 DB8 (io), 18 DB9 (io), 19 DB10 (io), 20 DB11 (MSB) (io), 21 VLL (+5V) (power), 22 ~{RD} (in), 23 ~{LS} (in), 24 AGND (power), 25 VCC (+12V/+15V) (power), 26 VEE(-12V/-15V) (power), 27 VOA (hiz), 28 VOB (hiz)

## AD664BE
designator U?
Quad 12-Bit Monolithic Digital-to-Analog Converter, -40 to +85 degC, E-44-1, Pb-Free, Tube; Generic Part Number: AD664; Manufacturer: Analog Devices; PartNumber: AD664BE; # DAC Outputs: 4; Max V+: 16.5V; Op Pwr Diss: 525mW; Resolution (Bits): 12; Settling Time: 8µs; Single Supply: No; DatasheetVersion: Rev.D; PackageVersion: 022106-A; PackageReference: E-44-1; PackageDescription: 44-Terminal Ceramic Leadless Chip Carrier [LCC]; Supplier 1: Digi-Key; Supplier Part Number 1: AD664BE-ND; Supplier 2: Mouser; Supplier Part Number 2: 584-AD664BE; Packing: Tube; RoHS: Y; Mounting Technology: Surface Mount; ComponentLink1Description: Manufacturer URL; ComponentLink1URL: http://www.analog.com/en/index.html; ComponentLink2Description: Datasheet; ComponentLink2URL: http://www.analog.com/static/imported-files/data_sheets/AD664.pdf; ComponentLink3Description: Package Specification; ComponentLink3URL: http://www.analog.com/static/imported-files/packages/PKG_PDF/LCC(E)/E_44_1.pdf; ComponentLink4Description: Product URL; ComponentLink4URL: http://www.analog.com/en/digital-to-analog-converters/da-converters/ad664/products/product.html
footprint E-44-1_N (Leadless Chip Carrier, 44-Leads, Body 16.5x16.5mm, Pitch 1.27mm, IPC Medium Density)
footprint E-44-1_L (Leadless Chip Carrier, 44-Leads, Body 16.5x16.5mm, Pitch 1.27mm, IPC High Density)
footprint E-44-1_M (Leadless Chip Carrier, 44-Leads, Body 16.5x16.5mm, Pitch 1.27mm, IPC Low Density)
pins: 1 ~{RD} (in), 2 ~{LS} (in), 3 NO CONNECT, 4 AGND (power), 5 VCC (+12V/+15V) (power), 6 VEE (-12V/-15V) (power), 7 RFA (in), 8 VOA (hiz), 9 VOB (hiz), 10 RFB (in), 11 VREFIN (in), 12 RFC (in), 13 VOC (hiz), 14 VOD (hiz), 15 RFD (in), 16 NO CONNECT, 17 NO CONNECT, 18 ~{CS} (in), 19 DS0 (in), 20 DS1 (in), 21 DGND (power), 22 ~{RST} (in), 23 ~{QS0} (in), 24 ~{QS1} (in), 25 ~{QS2} (in), 26 ~{TR} (in), 27 ~{MS} (in), 28 (LSB) DB0 (io), 29 DB1 (io), 30 DB2 (io), 31 DB3 (io), 32 DB4 (io), 33 DB5 (io), 34 NO CONNECT, 35 DB6 (io), 36 DB7 (io), 37 DB8 (io), 38 DB9 (io), 39 DB10 (io), 40 DB11 (MSB) (io), 41 NO CONNECT, 42 VLL (+5V) (power), 43 NO CONNECT, 44 NO CONNECT

## AD664BJ
designator U?
Quad 12-Bit Monolithic Digital-to-Analog Converter, -40 to +85 degC, J-44, Pb-Free, Tube; Generic Part Number: AD664; Manufacturer: Analog Devices; PartNumber: AD664BJ; # DAC Outputs: 4; Max V+: 16.5V; Op Pwr Diss: 525mW; Resolution (Bits): 12; Settling Time: 8µs; Single Supply: No; DatasheetVersion: Rev.D; PackageVersion: rev0, 1992; PackageReference: J-44; PackageDescription: 44-Pin Leaded Chip Carrier 1.27 mm Pitch; Supplier 1: Digi-Key; Supplier Part Number 1: AD664BJ-ND; Packing: Tube; RoHS: Y; Mounting Technology: Surface Mount; ComponentLink1Description: Manufacturer URL; ComponentLink1URL: http://www.analog.com/en/index.html; ComponentLink2Description: Datasheet; ComponentLink2URL: http://www.analog.com/static/imported-files/data_sheets/AD664.pdf; ComponentLink3Description: Package Specification; ComponentLink3URL: http://www.analog.com/static/imported-files/packages/95600467J_44.pdf; ComponentLink4Description: Product URL; ComponentLink4URL: http://www.analog.com/en/digital-to-analog-converters/da-converters/ad664/products/product.html
footprint J-44_N (Leaded Chip Carrier, 44-Leads, Body 16.4x16.4mm, Pitch 1.27mm, IPC Medium Density)
footprint J-44_L (Leaded Chip Carrier, 44-Leads, Body 16.4x16.4mm, Pitch 1.27mm, IPC High Density)
footprint J-44_M (Leaded Chip Carrier, 44-Leads, Body 16.4x16.4mm, Pitch 1.27mm, IPC Low Density)
pins: 1 ~{RD} (in), 2 ~{LS} (in), 3 NO CONNECT, 4 AGND (power), 5 VCC (+12V/+15V) (power), 6 VEE (-12V/-15V) (power), 7 RFA (in), 8 VOA (hiz), 9 VOB (hiz), 10 RFB (in), 11 VREFIN (in), 12 RFC (in), 13 VOC (hiz), 14 VOD (hiz), 15 RFD (in), 16 NO CONNECT, 17 NO CONNECT, 18 ~{CS} (in), 19 DS0 (in), 20 DS1 (in), 21 DGND (power), 22 ~{RST} (in), 23 ~{QS0} (in), 24 ~{QS1} (in), 25 ~{QS2} (in), 26 ~{TR} (in), 27 ~{MS} (in), 28 (LSB) DB0 (io), 29 DB1 (io), 30 DB2 (io), 31 DB3 (io), 32 DB4 (io), 33 DB5 (io), 34 NO CONNECT, 35 DB6 (io), 36 DB7 (io), 37 DB8 (io), 38 DB9 (io), 39 DB10 (io), 40 DB11 (MSB) (io), 41 NO CONNECT, 42 VLL (+5V) (power), 43 NO CONNECT, 44 NO CONNECT

## AD664JN-BIP
designator U?
Quad 12-Bit Monolithic Digital-to-Analog Converter, 0 to +70 degC, N-28-2, Tube; Generic Part Number: AD664; Manufacturer: Analog Devices; PartNumber: AD664JN-BIP; # DAC Outputs: 4; Max V+: 16.5V; Op Pwr Diss: 525mW; Resolution (Bits): 12; Settling Time: 8µs; Single Supply: No; DatasheetVersion: Rev.D; PackageVersion: 071006-A; PackageReference: N-28-2; PackageDescription: 28-Lead Plastic Dual In-Line Package [PDIP]; Supplier 1: Digi-Key; Supplier Part Number 1: AD664JN-BIP-ND; Supplier 2: Newark; Supplier Part Number 2: 92F8921; Supplier 3: Mouser; Supplier Part Number 3: 584-AD664JN-BIP; Packing: Tube; RoHS: N; Mounting Technology: Through Hole; Code_JEDEC: MS-011; ComponentLink1Description: Manufacturer URL; ComponentLink1URL: http://www.analog.com/en/index.html; ComponentLink2Description: Datasheet; ComponentLink2URL: http://www.analog.com/static/imported-files/data_sheets/AD664.pdf; ComponentLink3Description: Package Specification; ComponentLink3URL: http://www.analog.com/static/imported-files/packages/50849324123784N_28_2.pdf; ComponentLink4Description: Product URL; ComponentLink4URL: http://www.analog.com/en/digital-to-analog-converters/da-converters/ad664/products/product.html
footprint N-28-2 (DIP, 28-Leads, Row Spacing 15.55mm, Pitch 2.54mm, Body 37.4x13.5mm)
pins: 1 VREF IN (in), 2 VOC (hiz), 3 VOD (hiz), 4 ~{CS} (in), 5 DS0 (in), 6 DS1 (in), 7 DGND (power), 8 ~{RST} (in), 9 DB0 (LSB) (io), 10 DB1 (io), 11 DB2 (io), 12 DB3 (io), 13 DB4 (io), 14 DB5 (io), 15 DB6 (io), 16 DB7 (io), 17 DB8 (io), 18 DB9 (io), 19 DB10 (io), 20 DB11 (MSB) (io), 21 VLL (+5V) (power), 22 ~{RD} (in), 23 ~{LS} (in), 24 AGND (power), 25 VCC (+12V/+15V) (power), 26 VEE (-12V/-15V) (power), 27 VOA (hiz), 28 VOB (hiz)